# EAGLE library part TALAN (library Dal_V2)
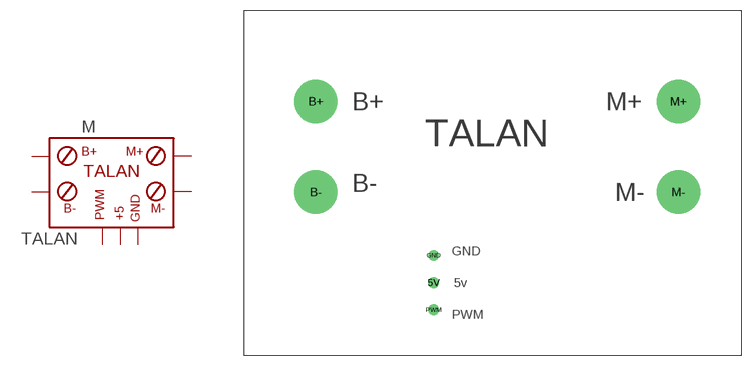
[diagram p27: symbol with the pads of TALAN_PWM; footprint TALAN_PWM]

Designator prefix M

## TALAN  [TALAN_PWM]
5V  5V  pas
B+  B+  pas
B-  B-  pas
GND  GND  pas
M+  M+  pas
M-  M-  pas
PWM  PWM  pas

## Footprint TALAN_PWM (pad centres in mm)
drill 1: 5V 26.67,10.16; GND 26.67,13.97; PWM 26.67,6.35
drill 5.08: B+ 10.16,35.56; B- 10.16,22.86; M+ 60.96,35.56; M- 60.96,22.86